# Altium footprint library PcbLib1.PcbLib: 10 footprints
Each footprint in its own frame and in the unit in brackets; x right, y up, seen from the top. Pads: shape width x height; smd on the part's side, far side on the other; paste and mask are expansions set on the pad; w line width, h text height; cw(c..) or ccw(c..) is an arc to the next point about the centre after c.
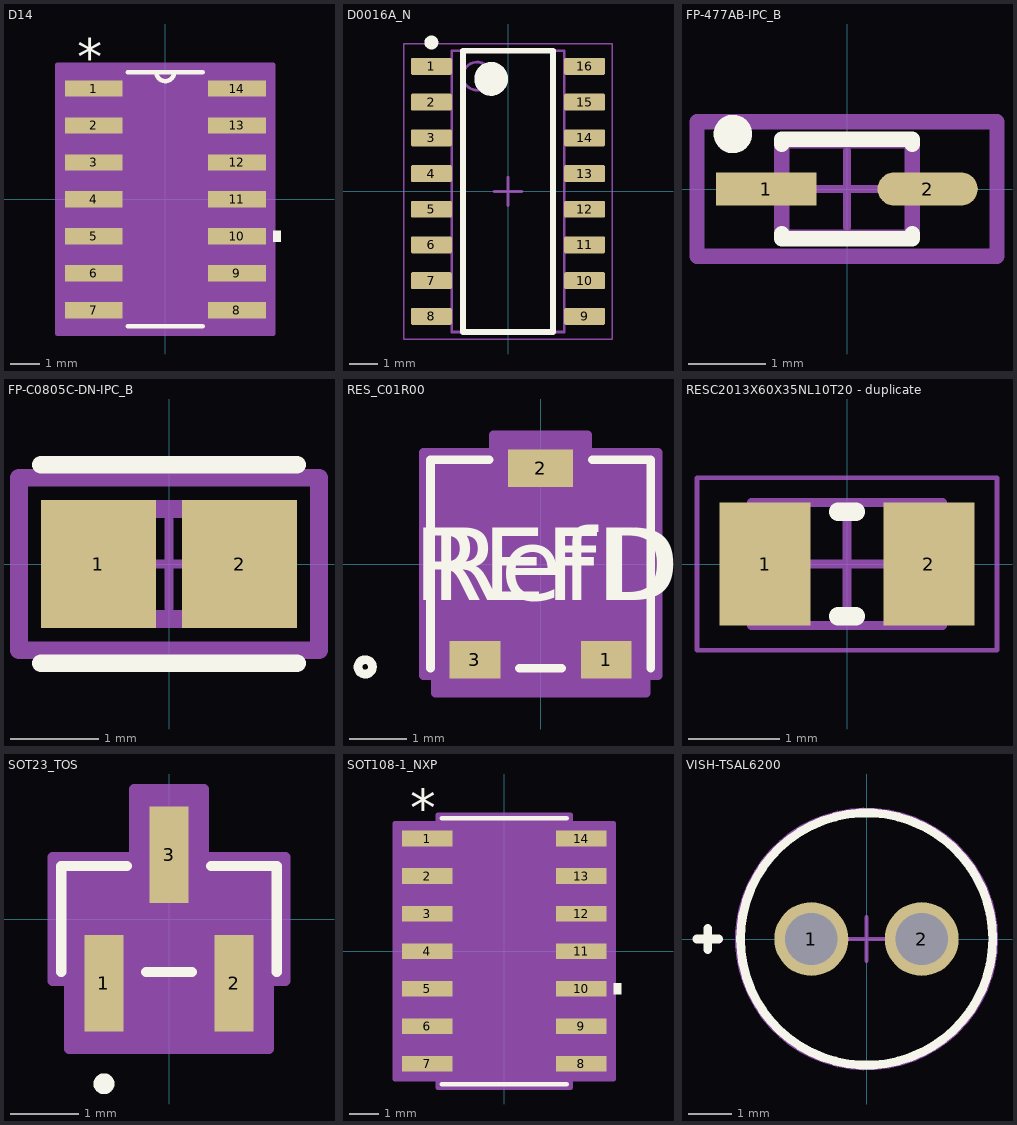
[diagram p0: the footprints below, top view; thin cyan lines are the x and y axes]

## D14 [mil]
pads (14):
  rect 78x22 smd paste-39 mask-39: 1(-97,150) 2(-97,100) 3(-97,50) 4(-97,0) 5(-97,-50) 6(-97,-100) 7(-97,-150) 8(97,-150) 9(97,-100) 10(97,-50) 11(97,0) 12(97,50) 13(97,100) 14(97,150)
Top Overlay:
  region: 146,-42.5 156,-42.5 156,-57.5 146,-57.5
  lines w6: -50.89,-172 50.89,-172 ; -50.89,172 50.89,172 ; -12,172 ccw(c0,172) 12,172
  text ".Designator" at -137.5,-25 h50
  text "*" at -119.5,167 h50
Mechanical 13:
  lines w1: -12,172 ccw(c0,172) 12,172 ; -122,-160 -122,-140 -78.5,-140 -78.5,-160 -122,-160 ; -122,-110 -122,-90 -78.5,-90 -78.5,-110 -122,-110 ; -122,-60 -122,-40 -78.5,-40 -78.5,-60 -122,-60 ; -122,-10 -122,10 -78.5,10 -78.5,-10 -122,-10 ; -122,40 -122,60 -78.5,60 -78.5,40 -122,40 ; -122,90 -122,110 -78.5,110 -78.5,90 -122,90 ; -122,140 -122,160 -78.5,160 -78.5,140 -122,140 ; -78.5,-172 78.5,-172 78.5,172 -78.5,172 -78.5,-172 ; 78.5,-160 78.5,-140 122,-140 122,-160 78.5,-160 ; 78.5,-110 78.5,-90 122,-90 122,-110 78.5,-110 ; 78.5,-60 78.5,-40 122,-40 122,-60 78.5,-60 ; 78.5,-10 78.5,10 122,10 122,-10 78.5,-10 ; 78.5,40 78.5,60 122,60 122,40 78.5,40 ; 78.5,90 78.5,110 122,110 122,90 78.5,90 ; 78.5,140 78.5,160 122,160 122,140 78.5,140
  text "*" at -119.5,167 h50
  text ".Designator" at -137.5,-25 h50
Mechanical 15:
  region: 146,-182 -146,-182 -146,182 146,182
  lines w6: -146,-182 -146,182 146,182 146,-182 -146,-182
3D body "D14.step": height 69.09, standoff 0, extent -122.01,-172.01 122.01,172.01

## D0016A_N [mm] "SOIC, 16-Leads, Body 10x4mm, Pitch 1.27mm, IPC Medium Density"
height 1.75
pads (16):
  rrect17% 1.45x0.6 smd: 1(-2.725,4.445) 2(-2.725,3.175) 3(-2.725,1.905) 4(-2.725,0.635) 5(-2.725,-0.635) 6(-2.725,-1.905) 7(-2.725,-3.175) 8(-2.725,-4.445) 9(2.725,-4.445) 10(2.725,-3.175) 11(2.725,-1.905) 12(2.725,-0.635) 13(2.725,0.635) 14(2.725,1.905) 15(2.725,3.175) 16(2.725,4.445)
Top Overlay:
  circle w0.25: c-2.725,5.295 r0.125
  circle w0.6: c-0.6,4 r0.3
  lines w0.2: -1.6,-5 -1.6,5 1.6,5 1.6,-5 -1.6,-5
Mechanical 1:
  text ".Designator" at -1.575,-0.275 h0.8
Mechanical 13:
  circle w0.1: c-1.1,4.1 r0.5
  lines w0.1: -2,-5 -2,5 2,5 2,-5 -2,-5
Mechanical 15:
  lines w0.05: -3.7,-5.25 -3.7,5.25 3.7,5.25 3.7,-5.25 -3.7,-5.25
  lines w0.1: -0.5,0 0.5,0 ; 0,-0.5 0,0.5
3D body "SOIC-16akaD0016AakaM16A.stp": height 1.59, standoff -0.01, extent -2.997,-4.953 2.997,4.953

## FP-477AB-IPC_B [mil]
pads (2):
  rect 51.4x17.03 smd paste+0 mask+0: 1(-41.35,0)
  rrect100% 51.4x17.03 smd paste+0 mask+0: 2(41.35,0)
Top Overlay:
  circle w9.84: c-58.48,28.2 r4.92
  lines w7.87: -33.46,-23.03 -33.46,-25.59 33.46,-25.59 33.46,-23.03 ; -33.46,23.03 -33.46,25.59 33.46,25.59 33.46,23.03
Top 3D Body:
  lines w7.87: -33.46,-24.61 -33.46,24.61 33.46,24.61 33.46,-24.61 -33.46,-24.61
Top Courtyard:
  lines w7.87: -76.89,-34.45 -76.89,34.45 76.89,34.45 76.89,-34.45 -76.89,-34.45
Top Assembly:
  lines w7.87: -76.89,-34.45 -76.89,34.45 76.89,34.45 76.89,-34.45 -76.89,-34.45
  text ".Designator" at 0,7.39 h39.37
Top Component Center:
  lines w3.94: -19.68,0 19.68,0 ; 0,-19.68 0,19.68
3D body "Diode_ON_Semiconductor_1N4148WS_eec.STEP": height 10, standoff 0, extent -76.89,-34.45 76.89,34.45

## FP-C0805C-DN-IPC_B [mil]
pads (2):
  rect 51.36x57.33 smd paste+0 mask+0: 1(-31.53,0) 2(31.53,0)
Top Overlay:
  lines w7.87: -57.21,-44.41 57.21,-44.41 ; -57.21,44.41 57.21,44.41
Top 3D Body:
  lines w7.87: -39.37,-24.61 39.37,-24.61 39.37,24.61 -39.37,24.61 -39.37,-24.61
Top Courtyard:
  lines w7.87: -67.05,-38.51 67.05,-38.51 67.05,38.51 -67.05,38.51 -67.05,-38.51
Top Assembly:
  lines w7.87: -67.05,-38.51 67.05,-38.51 67.05,38.51 -67.05,38.51 -67.05,-38.51
  text ".Designator" at 0,7.39 h39.37
Top Component Center:
  lines w3.94: -19.68,0 19.68,0 ; 0,-19.68 0,19.68
3D body "Cap_KEMET_C0805C472J3HAC_eec.STEP": height 10, standoff 0, extent -67.05,-38.51 67.05,38.51

## PCBComponent_1 [mil]

## RES_C01R00 [mil]
pads (3):
  rect 35x26 smd paste+0 mask+0: 1(45.28,-66) 3(-45.28,-66)
  rect 45x26 smd paste+0 mask+0: 2(0,66)
Top Overlay:
  circle w6: c-121,-71 r5
  lines w6: -76,-72 -76,72 -35.6,72 ; -14.68,-72 14.68,-72 ; 35.6,72 76,72 76,-72
  text "REFDES" at -87.5,-25 h50
  text "RefDes" at -75,-25 h50
Mechanical 13:
  circle w0: c-61,-57 r5
  lines w1: -71,-67 71,-67 71,67 -71,67 -71,-67 ; -62.78,-71 -62.78,-67 -27.78,-67 -27.78,-71 -62.78,-71 ; -22.5,67 22.5,67 22.5,71 -22.5,71 -22.5,67 ; 27.78,-71 27.78,-67 62.78,-67 62.78,-71 27.78,-71
  text "RefDes2" at -87.5,-25 h50
Mechanical 15:
  region: -81,-77 -81,77 -32.5,77 -32.5,89 32.5,89 32.5,77 81,77 81,-77 72.78,-77 72.78,-89 -72.78,-89 -72.78,-77
  region: 71,-67 -71,-67 -71,67 71,67
  lines w6: -81,-77 -81,77 -32.5,77 -32.5,89 32.5,89 32.5,77 81,77 81,-77 72.78,-77 72.78,-89 -72.78,-89 -72.78,-77 -81,-77
3D body "RES_C01R00.step": height 81.1, standoff 0, extent -70.98,-67.01 70.98,67.01

## RESC2013X60X35NL10T20 - duplicate [mm] "Chip Resistor, 2-Leads, Body 2.00x1.25mm, IPC Medium Density"
height 0.6
pads (2):
  rect 1x1.35 smd: 1(-0.9,0) 2(0.9,0)
Top Overlay:
  lines w0.2: -0.1,-0.575 0.1,-0.575 ; -0.1,0.575 0.1,0.575
Mechanical 13:
  lines w0.1: -1.05,-0.675 1.05,-0.675 1.05,0.675 -1.05,0.675 -1.05,-0.675
Mechanical 15:
  lines w0.05: -1.65,-0.95 1.65,-0.95 1.65,0.95 -1.65,0.95 -1.65,-0.95
  lines w0.1: -0.5,0 0.5,0 ; 0,-0.5 0,0.5
3D body: height 0.6, standoff 0, extent 0.7,-0.675 1.05,0.675
3D body: height 0.6, standoff 0, extent -1.05,-0.675 -0.7,0.675
3D body: height 0.6, standoff 0, extent -0.7,-0.675 0.7,0.675

## SOT23_TOS [mil]
pads (3):
  rect 22.36x55.56 smd paste+0 mask+0: 1(-37.4,-37) 2(37.4,-37) 3(0,37)
Top Overlay:
  circle w6: c-37.4,-94.78 r3
  lines w6: -62,-30.5 -62,30.5 -24.28,30.5 ; -13.12,-30.5 13.12,-30.5 ; 24.28,30.5 62,30.5 62,-30.5
  text ".Designator" at -137.5,-25 h50
Mechanical 13:
  circle w1: c-37.4,-15.5 r3
  lines w1: -57,-25.5 -57,25.5 57,25.5 57,-25.5 -57,-25.5 ; -47.4,-51 -27.4,-51 -27.4,-25.5 -47.4,-25.5 -47.4,-51 ; -10,25.5 -10,51 10,51 10,25.5 -10,25.5 ; 27.4,-51 47.4,-51 47.4,-25.5 27.4,-25.5 27.4,-51
  text ".Designator" at -137.5,-25 h50
Mechanical 15:
  region: -67,-35.5 -67,35.5 -20,35.5 -20,74.78 20,74.78 20,35.5 67,35.5 67,-35.5 57.4,-35.5 57.4,-74.78 -57.4,-74.78 -57.4,-35.5
  lines w6: -67,-35.5 -57.4,-35.5 -57.4,-74.78 57.4,-74.78 57.4,-35.5 67,-35.5 67,35.5 20,35.5 20,74.78 -20,74.78 -20,35.5 -67,35.5 -67,-35.5
3D body "SOT23_TOS.step": height 43.11, standoff 0, extent -57.01,-50.98 57.01,50.98

## SOT108-1_NXP [mil]
pads (14):
  rect 67x21 smd paste+0 mask+0: 1(-102.5,150) 2(-102.5,100) 3(-102.5,50) 4(-102.5,0) 5(-102.5,-50) 6(-102.5,-100) 7(-102.5,-150) 8(102.5,-150) 9(102.5,-100) 10(102.5,-50) 11(102.5,0) 12(102.5,50) 13(102.5,100) 14(102.5,150)
Top Overlay:
  region: 146,-42.5 156,-42.5 156,-57.5 146,-57.5
  lines w6: -83.5,-177 83.5,-177 ; -83.5,177 83.5,177
  text ".Designator" at -137.5,-25 h50
  text "*" at -125,166 h50
Mechanical 13:
  lines w1: -12,172 ccw(c0,172) 12,172 ; -122,-159.5 -122,-140.5 -78.5,-140.5 -78.5,-159.5 -122,-159.5 ; -122,-109.5 -122,-90.5 -78.5,-90.5 -78.5,-109.5 -122,-109.5 ; -122,-59.5 -122,-40.5 -78.5,-40.5 -78.5,-59.5 -122,-59.5 ; -122,-9.5 -122,9.5 -78.5,9.5 -78.5,-9.5 -122,-9.5 ; -122,40.5 -122,59.5 -78.5,59.5 -78.5,40.5 -122,40.5 ; -122,90.5 -122,109.5 -78.5,109.5 -78.5,90.5 -122,90.5 ; -122,140.5 -122,159.5 -78.5,159.5 -78.5,140.5 -122,140.5 ; -78.5,-172 78.5,-172 78.5,172 -78.5,172 -78.5,-172 ; 78.5,-159.5 78.5,-140.5 122,-140.5 122,-159.5 78.5,-159.5 ; 78.5,-109.5 78.5,-90.5 122,-90.5 122,-109.5 78.5,-109.5 ; 78.5,-59.5 78.5,-40.5 122,-40.5 122,-59.5 78.5,-59.5 ; 78.5,-9.5 78.5,9.5 122,9.5 122,-9.5 78.5,-9.5 ; 78.5,40.5 78.5,59.5 122,59.5 122,40.5 78.5,40.5 ; 78.5,90.5 78.5,109.5 122,109.5 122,90.5 78.5,90.5 ; 78.5,140.5 78.5,159.5 122,159.5 122,140.5 78.5,140.5
  text "*" at -76,119 h50
  text ".Designator" at -137.5,-25 h50
Mechanical 15:
  region: -88.5,-170.5 -146,-170.5 -146,170.5 -88.5,170.5 -88.5,182 88.5,182 88.5,170.5 146,170.5 146,-170.5 88.5,-170.5 88.5,-182 -88.5,-182
  lines w6: -146,-170.5 -146,170.5 -88.5,170.5 -88.5,182 88.5,182 88.5,170.5 146,170.5 146,-170.5 88.5,-170.5 88.5,-182 -88.5,-182 -88.5,-170.5 -146,-170.5
3D body "SOT108-1_NXP.step": height 69.09, standoff 0, extent -122.01,-172.01 122.01,172.01

## VISH-TSAL6200 [mm] "THD, 2-Leads, Dia 5.8mm, Pitch 2.54mm"
pads (2):
  round 1.7 hole 1.2: 1(-1.27,0) 2(1.27,0)
Top Overlay:
  circle w0.2: c0,0 r2.9
  lines w0.2: -3.899,0 -3.4,0 ; -3.649,-0.25 -3.649,0.25
Mechanical 13:
  circle w0.1: c0,0 r2.9
Mechanical 15:
  circle w0.05: c0,0 r3
  lines w0.1: -0.5,0 0.5,0 ; 0,-0.5 0,0.5